# Altium footprint library D-sub.PcbLib: 1 footprints
Each footprint in its own frame and in the unit in brackets; x right, y up, seen from the top. Pads: shape width x height; smd on the part's side, far side on the other; paste and mask are expansions set on the pad; w line width, h text height; cw(c..) or ccw(c..) is an arc to the next point about the centre after c.
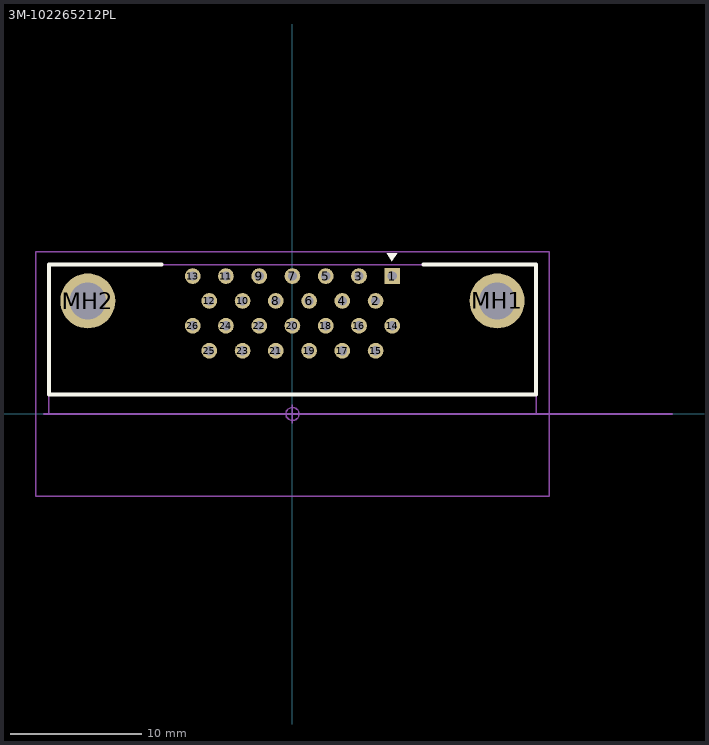
[diagram p0: the footprint, top view; thin cyan lines are the x and y axes]

## 3M-102265212PL [mm]
height 9.4
pads (28):
  rect 1.2x1.2 hole 0.7: 1(7.62,10.53)
  round 1.2 hole 0.7: 2(6.35,8.63) 3(5.08,10.53) 4(3.81,8.63) 5(2.54,10.53) 6(1.27,8.63) 7(0,10.53) 8(-1.27,8.63) 9(-2.54,10.53) 10(-3.81,8.63) 11(-5.08,10.53) 12(-6.35,8.63) 13(-7.62,10.53) 14(7.62,6.73) 15(6.35,4.83) 16(5.08,6.73) 17(3.81,4.83) 18(2.54,6.73) 19(1.27,4.83) 20(0,6.73) 21(-1.27,4.83) 22(-2.54,6.73) 23(-3.81,4.83) 24(-5.08,6.73) 25(-6.35,4.83) 26(-7.62,6.73)
  round 4.2 hole 2.8: MH1(15.63,8.63) MH2(-15.63,8.63)
Top Overlay:
  region: 7.995,12.255 7.195,12.255 7.595,11.655
  lines w0.3: -10,11.4 -18.6,11.4 -18.6,1.5 18.6,1.5 18.6,11.4 10,11.4
Top Assembly:
  lines w0.1: -18.6,0 18.6,0 18.6,11.4 -18.6,11.4 -18.6,0
Bottom Assembly:
  lines w0.13: -19,0 29,0
  text "PCB Edge" at 21,1 h1
Top Designator:
  text ".Designator" at -3.81,2.5 h1
Top Component Outline:
  lines w0.1: -19.6,-6.3 -19.6,12.4 19.6,12.4 19.6,-6.3 -19.6,-6.3
Top Component Center:
  circle w0.1: c0,0 r0.5
  lines w0.1: -0.686,0 0.711,0 ; -0.001,-0.706 -0.001,0.691
3D body "10226-5212PL.stp": height 10.13, standoff -3.17, extent -18.6,-5.29 18.6,11.41